# Altium schematic symbol library PCB_Project1.SCHLIB: 3 symbols
Pins are listed as number, name and electrical type; pins without a type are passive.

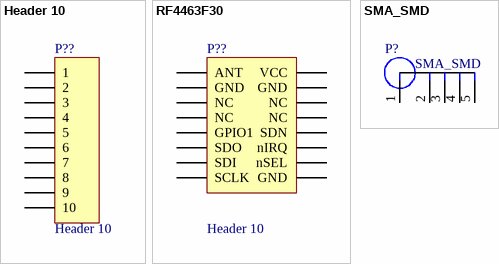
[diagram p0: symbols Header 10 to SMA_SMD]

## Header 10
designator P??
Header, 10-Pin; LatestRevisionDate: 17-Jul-2002; LatestRevisionNote: Re-released for DXP Platform.; Publisher: Altium Limited
footprint HDR1X10 (Connector; Header; 10 Position)
signal-integrity model Connector
pins: 1, 2, 3, 4, 5, 6, 7, 8, 9, 10

## RF4463F30
designator P??, comment Header 10
Header, 10-Pin; LatestRevisionDate: 17-Jul-2002; LatestRevisionNote: Re-released for DXP Platform.; Publisher: Altium Limited
footprint HDR1X10 (Connector; Header; 10 Position)
signal-integrity model Connector
pins: 1 VCC, 2 GND, 3 NC, 4 NC, 5 SDN, 6 nIRQ, 7 nSEL, 8 GND, 9 SCLK, 10 SDI, 11 SDO, 12 GPIO1, 13 NC, 14 NC, 15 GND, 16 ANT

## SMA_SMD
designator P?
footprint SMA
pins: 1, 2, 3, 4, 5